# Altium footprint library LM317T IC Regulator.PcbLib: 1 footprints
Each footprint in its own frame and in the unit in brackets; x right, y up, seen from the top. Pads: shape width x height; smd on the part's side, far side on the other; paste and mask are expansions set on the pad; w line width, h text height; cw(c..) or ccw(c..) is an arc to the next point about the centre after c.
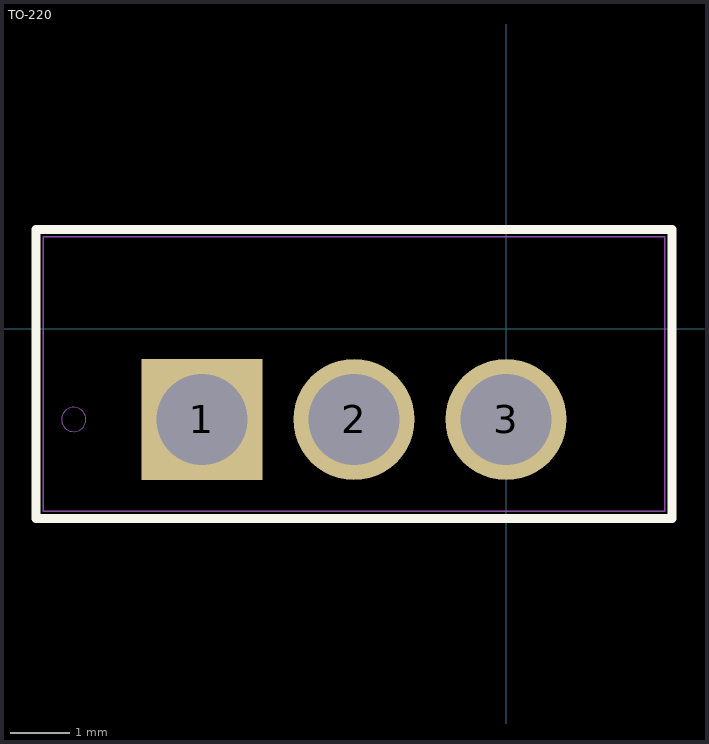
[diagram p0: the footprint, top view; thin cyan lines are the x and y axes]

## TO-220 [mil] "IC REG LIN POS ADJ 1.5A TO220AB"
pads (3):
  rect 80x80 / inner round 60 / far side rect 80x80 hole 60: 1(-200.79,-60)
  round 80 / inner round 60 / far side round 80 hole 60: 2(-100.39,-60) 3(0,-60)
Top Overlay:
  lines w6: -310.39,-125.5 -310.39,65.5 109.61,65.5 109.61,-125.5 -310.39,-125.5
Mechanical 13:
  circle w0: c-285.39,-60 r8
  lines w1: -305.39,-120.5 -305.39,60.5 104.61,60.5 104.61,-120.5 -305.39,-120.5
  lines w6: -210.79,-60 -190.79,-60 ; -200.79,-70 -200.79,-50
3D body: height 10, standoff 0, extent 0,0 10,10